# Altium footprint library pads.PcbLib: 30 footprints (part 1 of 2)
Each footprint in its own frame and in the unit in brackets; x right, y up, seen from the top. Pads: shape width x height; smd on the part's side, far side on the other; paste and mask are expansions set on the pad; w line width, h text height; cw(c..) or ccw(c..) is an arc to the next point about the centre after c.
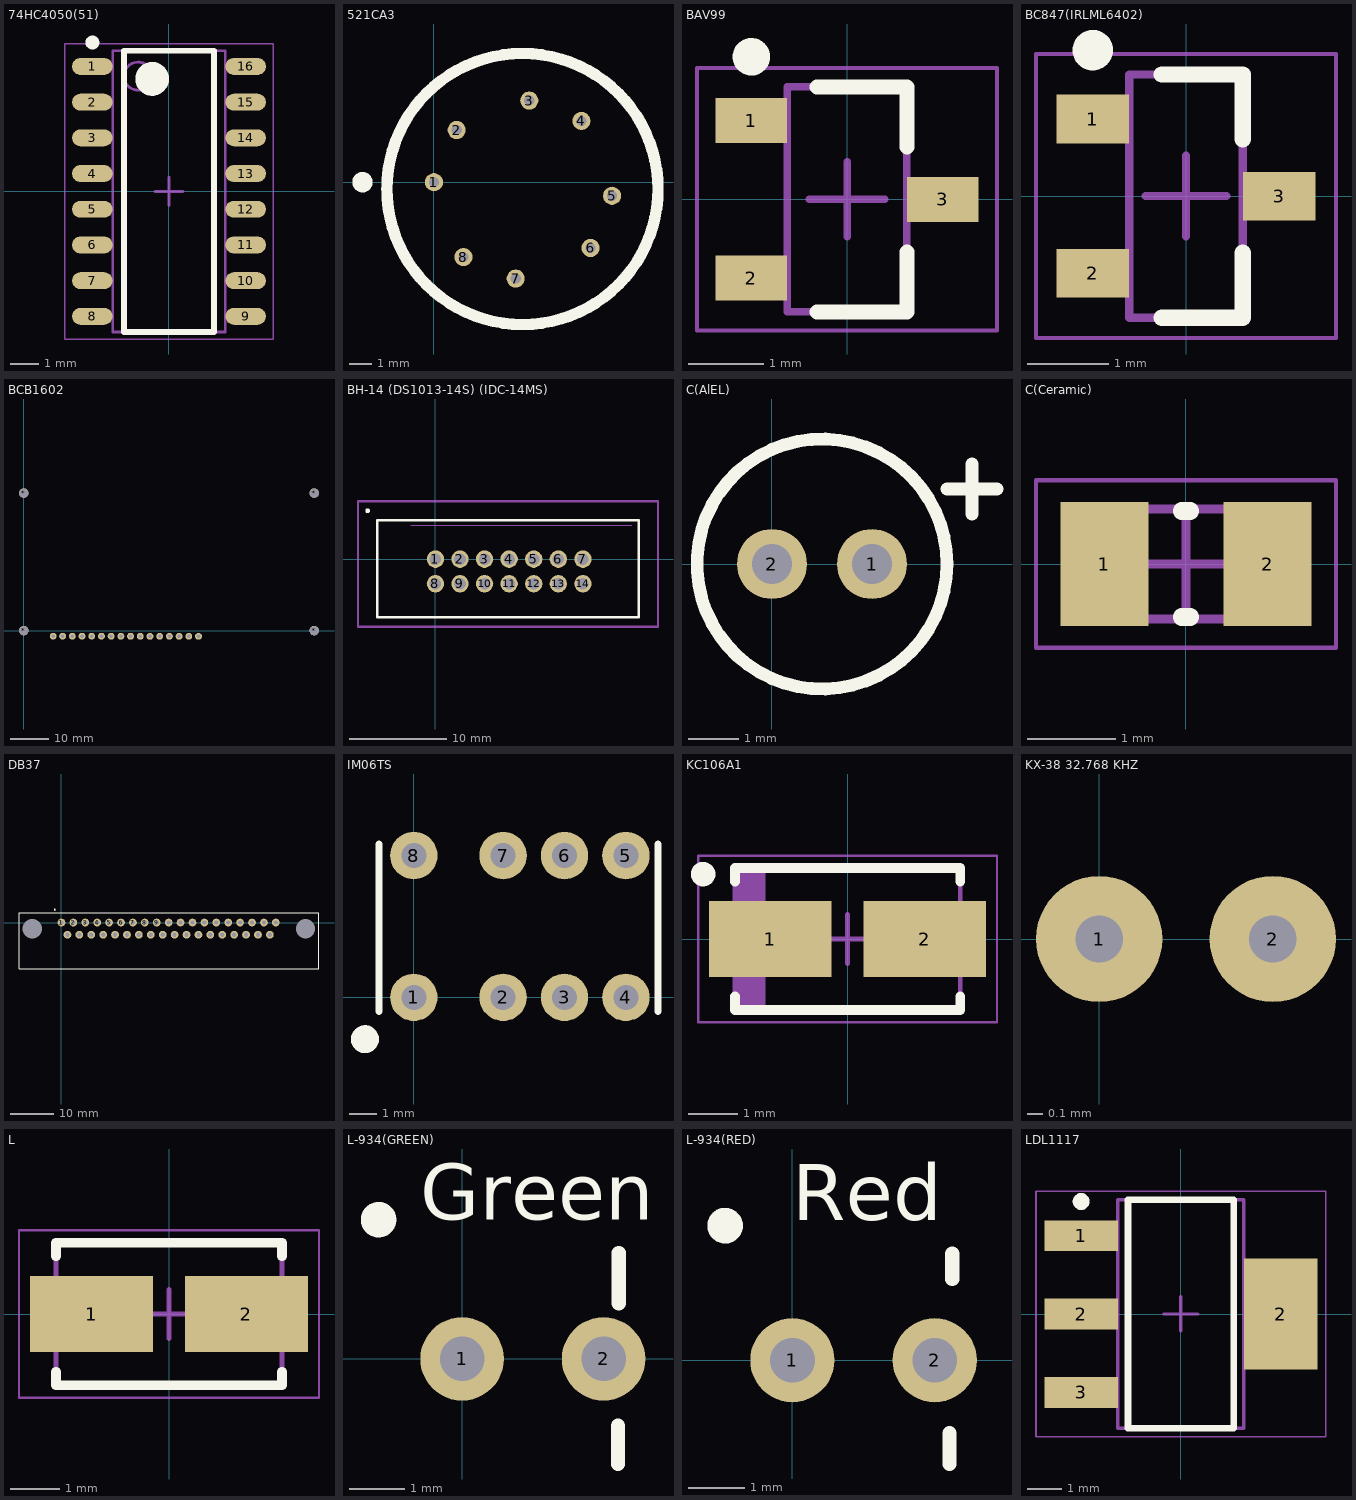
[diagram p0: the footprints below, top view; thin cyan lines are the x and y axes]

## 74HC4050(51) [mm]
height 1.8
pads (16):
  oval 1.45x0.6 smd: 1(-2.725,4.445) 2(-2.725,3.175) 3(-2.725,1.905) 4(-2.725,0.635) 5(-2.725,-0.635) 6(-2.725,-1.905) 7(-2.725,-3.175) 8(-2.725,-4.445) 9(2.725,-4.445) 10(2.725,-3.175) 11(2.725,-1.905) 12(2.725,-0.635) 13(2.725,0.635) 14(2.725,1.905) 15(2.725,3.175) 16(2.725,4.445)
Top Overlay:
  circle w0.6: c-0.6,4 r0.3
  circle w0.25: c-2.725,5.295 r0.125
  lines w0.2: -1.6,-5 1.6,-5 1.6,5 -1.6,5 -1.6,-5
Mechanical 13:
  circle w0.1: c-1.1,4.1 r0.5
  lines w0.1: -2,-5 2,-5 2,5 -2,5 -2,-5
Mechanical 15:
  lines w0.05: -3.7,-5.25 3.7,-5.25 3.7,5.25 -3.7,5.25 -3.7,-5.25
  lines w0.1: -0.5,0 0.5,0 ; 0,-0.5 0,0.5
3D body "SOIC127P600X175-16N.step": height 1.75, standoff 0, extent -3,-5 3,5

## 521СА3 [mm]
pads (8):
  round 0.8 hole 0.45: 1(0,0) 2(1,2.3) 3(4.2,3.6) 4(6.5,2.7) 5(7.85,-0.6) 6(6.9,-2.9) 7(3.6,-4.25) 8(1.3,-3.3)
Top Overlay:
  circle w0.5: c3.9,-0.3 r5.975
  circle w0.5: c-3.15,0 r0.2
3D body "User Library-301_8-2.STEP": height 7.7, standoff -2.7, extent -1.94,-5 8.6,4.4

## BAV99 [mm] "SOT23, 3-Leads, Body 2,90x2,45mm, Pitch 1,05mm, IPC Medium Density"
height 1.3
pads (3):
  rect 0.95x0.6 smd: 1(-1.275,1.05) 2(-1.275,-1.05) 3(1.275,0)
Top Overlay:
  circle w0.25: c-1.275,1.9 r0.125
  lines w0.2: -0.4,-1.5 0.8,-1.5 0.8,-0.7 ; -0.4,1.5 0.8,1.5 0.8,0.7
Mechanical 13:
  lines w0.1: -0.8,-1.5 0.8,-1.5 0.8,1.5 -0.8,1.5 -0.8,-1.5
Mechanical 15:
  lines w0.05: -2,-1.75 2,-1.75 2,1.75 -2,1.75 -2,-1.75
  lines w0.1: -0.5,0 0.5,0 ; 0,-0.5 0,0.5
3D body "SOT105P245X130-3N.step": height 1.3, standoff 0, extent -1.4,-1.5 1.4,1.5

## BC847(IRLML6402) [mm] "SOT23, 3-Leads, Body 2,80x2,30mm, Pitch 0,95mm, IPC Medium Density"
height 1.1
pads (3):
  rect 0.9x0.6 smd: 1(-1.15,0.95) 2(-1.15,-0.95) 3(1.15,0)
Top Overlay:
  circle w0.25: c-1.15,1.8 r0.125
  lines w0.2: -0.3,-1.5 0.7,-1.5 0.7,-0.7 ; -0.3,1.5 0.7,1.5 0.7,0.7
Mechanical 13:
  lines w0.1: -0.7,-1.5 -0.7,1.5 0.7,1.5 0.7,-1.5 -0.7,-1.5
Mechanical 15:
  lines w0.05: -1.85,-1.75 -1.85,1.75 1.85,1.75 1.85,-1.75 -1.85,-1.75
  lines w0.1: -0.5,0 0.5,0 ; 0,-0.5 0,0.5
3D body "SOT95P230X110-3N.step": height 1.1, standoff 0, extent -1.3,-1.5 1.3,1.5

## BCB1602 [mm]
pads (20):
  round 1.8 hole 1: 1(7.7,-1.46) 2(10.16,-1.462) 3(12.7,-1.463) 4(15.24,-1.465) 5(17.78,-1.466) 6(20.32,-1.468) 7(22.86,-1.47) 8(25.4,-1.471) 9(27.94,-1.473) 10(30.48,-1.475) 11(33.02,-1.476) 12(35.56,-1.478) 13(38.1,-1.479) 14(40.64,-1.481) 15(43.18,-1.483) 16(45.72,-1.484)
  round 2.5 hole 2.5 unplated: *(0,0) *(0,36) *(76,0) *(76,36)

## BH-14 (DS1013-14S) (IDC-14MS) [mm]
pads (14):
  round 1.8 hole 1.2: 1(0,0) 2(2.54,0) 3(5.08,0) 4(7.62,0) 5(10.16,0) 6(12.7,0) 7(15.24,0) 8(0,-2.54) 9(2.54,-2.54) 10(5.08,-2.54) 11(7.62,-2.54) 12(10.16,-2.54) 13(12.7,-2.54) 14(15.24,-2.54)
Top Overlay:
  circle w0.25: c-7,5 r0.125
  lines w0.254: -6,-6 21,-6 21,4 -6,4 -6,-6
Mechanical 15:
  lines w0: -2.54,3.5 20.3,3.5
  lines w0.254: -8,-7 -8,6 23,6 23,-7 -8,-7
3D body "User Library-IDC-14MS.STEP": height 10.25, standoff -2.45, extent -5.1,-5.7 20.3,3.65
3D body: height 6.5, standoff 1.5, extent 30.1,-2 30.1,-2

## C(AlEL) [mm]
pads (2):
  round 1.4 hole 0.8: 1(2,0) 2(0,0)
Top Overlay:
  circle w0.254: c1,0 r2.5
  lines w0.254: 3.5,1.5 4.5,1.5 ; 4,1 4,2
3D body "User Library-cap 5x11.STEP": height 12, standoff -18, extent -1.5,-2.5 3.5,2.5
3D body: height 8.25, standoff -8.25, extent 1.75,-2.75 1.75,-2.75
3D body: height 8.25, standoff -8.25, extent 4.5,-4 4.5,-4

## C(Ceramic) [mm] "Chip Capacitor, 2-Leads, Body 2,00x1,25mm, IPC Medium Density"
height 1.3
pads (2):
  rect 1x1.4 smd: 1(-0.925,0) 2(0.925,0)
Top Overlay:
  lines w0.2: -0.05,-0.6 0.05,-0.6 ; -0.05,0.6 0.05,0.6
Mechanical 13:
  lines w0.1: -1,-0.625 -1,0.625 1,0.625 1,-0.625 -1,-0.625
Mechanical 15:
  lines w0.05: -1.7,-0.95 -1.7,0.95 1.7,0.95 1.7,-0.95 -1.7,-0.95
  lines w0.1: -0.5,0 0.5,0 ; 0,-0.5 0,0.5
3D body "CAPC2012X13N.step": height 1.3, standoff 0, extent -1,-0.625 1,0.625

## DB37 [mm]
pads (39):
  round 1.8 hole 1: 1(0,0) 2(2.77,0) 3(5.54,0) 4(8.31,0) 5(11.08,0) 6(13.85,0) 7(16.62,0) 8(19.39,0) 9(22.16,0) 10(24.93,0) 11(27.7,0) 12(30.47,0) 13(33.24,0) 14(36.01,0) 15(38.78,0) 16(41.55,0) 17(44.32,0) 18(47.09,0) 19(49.86,0) 20(1.385,-2.84) 21(4.155,-2.84) 22(6.925,-2.84) 23(9.695,-2.84) 24(12.465,-2.84) 25(15.235,-2.84) 26(18.005,-2.84) 27(20.775,-2.84) 28(23.545,-2.84) 29(26.315,-2.84) 30(29.085,-2.84) 31(31.855,-2.84) 32(34.625,-2.84) 33(37.395,-2.84) 34(40.165,-2.84) 35(42.935,-2.84) 36(45.705,-2.84) 37(48.475,-2.84)
  round 1.6 hole 4.5 unplated: *(-6.775,-1.45) *(56.775,-1.475)
Top Overlay:
  circle w0.25: c-1.55,3.025 r0.125
  lines w0.254: -9.875,-10.8 59.9,-10.8 59.9,2.225 -9.825,2.225 -9.875,2.175 -9.875,-10.8
3D body "User Library-DBPN1M-37.step": height 12.55, standoff -4.82, extent -9.775,-17.112 59.725,2.062

## IM06TS [mm]
pads (8):
  round 1.7 hole 0.9: 1(0,0) 2(3.2,0) 3(5.4,0) 4(7.6,0) 5(7.6,5.08) 6(5.4,5.08) 7(3.2,5.08) 8(0,5.08)
Top Overlay:
  circle w0.5: c-1.75,-1.5 r0.25
  lines w0.254: -1.25,-0.5 -1.25,5.5 ; 8.75,-0.5 8.75,5.5
3D body "User Library-L10,1_B06,1_H05,9_A02,20.step": height 5.4, standoff -3.45, extent -1.25,-0.5 8.75,5.5

## KC106A1 [mm]
pads (2):
  rect 2.5x1.55 smd: 1(-1.575,0) 2(1.575,0)
Top Overlay:
  circle w0.25: c-2.95,1.325 r0.125
  lines w0.2: -2.3,-1.175 -2.3,-1.45 2.3,-1.45 2.3,-1.175 ; -2.3,1.175 -2.3,1.45 2.3,1.45 2.3,1.175
Mechanical 13:
  rectangle: -2.3,-1.45 -1.681,1.45
  lines w0.1: -2.3,-1.45 2.3,-1.45 2.3,1.45 -2.3,1.45 -2.3,-1.45
Mechanical 15:
  lines w0.05: -3.05,-1.7 3.05,-1.7 3.05,1.7 -3.05,1.7 -3.05,-1.7
  lines w0.1: -0.5,0 0.5,0 ; 0,-0.5 0,0.5
3D body "DIOM4327X24N.step": height 2.44, standoff 0, extent -2.52,-1.45 2.52,1.45

## KX-38 32.768 KHZ [mm]
pads (2):
  round 0.8 hole 0.3: 1(0,0) 2(1.1,0)

## L [mm] "Molded Inductor, 2-Leads, Body 4,30x2,70mm, IPC Medium Density"
height 2.44
pads (2):
  rect 2.5x1.55 smd: 1(-1.575,0) 2(1.575,0)
Top Overlay:
  lines w0.2: -2.3,-1.175 -2.3,-1.45 2.3,-1.45 2.3,-1.175 ; -2.3,1.175 -2.3,1.45 2.3,1.45 2.3,1.175
Mechanical 13:
  lines w0.1: -2.3,-1.45 -2.3,1.45 2.3,1.45 2.3,-1.45 -2.3,-1.45
Mechanical 15:
  lines w0.05: -3.05,-1.7 -3.05,1.7 3.05,1.7 3.05,-1.7 -3.05,-1.7
  lines w0.1: -0.5,0 0.5,0 ; 0,-0.5 0,0.5
3D body "INDM4327X24N.step": height 2.44, standoff 0, extent -2.52,-1.45 2.52,1.45

## L-934(GREEN) [mm]
pads (2):
  round 1.5 hole 0.8: 1(0,0) 2(2.54,0)
Top Overlay:
  circle w0.354: c-1.5,2.5 r0.141
  lines w0.254: 2.8,-1.887 2.8,-1.2 ; 2.813,1 2.813,1.9
  text "Green" at -0.75,2.5 h1
3D body: height 6.5, standoff 1.5, extent 0,0 0,0
3D body: height 6.5, standoff 1.5, extent 0.25,0.25 0.25,0.25
3D body: height 6.5, standoff 1.5, extent 1.285,0 1.285,0
3D body: height 6.5, standoff 1.5, extent 1.285,0 1.285,0
3D body: height 6.5, standoff 1.5, extent 1.285,0 1.285,0
3D body: height 6.5, standoff 1.5, extent 1.285,0 1.285,0
3D body "everlight-3MM-LED-GREEN.step": height 5.64, standoff -6.93, extent -0.613,-1.9 2.813,1.9
3D body: height 8.25, standoff -8.25, extent -0.5,3 -0.5,3

## L-934(RED) [mm]
pads (2):
  round 1.5 hole 0.8: 1(0,0) 2(2.54,0)
Top Overlay:
  circle w0.354: c-1.2,2.4 r0.141
  lines w0.254: 2.8,-1.85 2.8,-1.3 ; 2.85,1.45 2.85,1.9
  text "Red" at 0,2.5 h1
3D body: height 6.5, standoff 1.5, extent 1.285,0 1.285,0
3D body: height 6.5, standoff 1.5, extent 1.285,0 1.285,0
3D body: height 6.5, standoff 1.5, extent 1.285,0 1.285,0
3D body: height 6.5, standoff 1.5, extent 1.285,0 1.285,0
3D body: height 6.5, standoff 1.5, extent 0.25,0.25 0.25,0.25
3D body: height 6.5, standoff 1.5, extent 0,0 0,0
3D body: height 8.25, standoff -8.25, extent -0.5,3 -0.5,3
3D body "CircuitWorks-LED DIP 3MM.step": height 6, standoff -2.5, extent -0.65,-1.9 2.85,1.9

## LDL1117 [mm]
height 1.8
pads (4):
  rect 2.15x0.9 smd: 1(-2.925,2.3) 2(-2.925,0) 3(-2.925,-2.3)
  rect 2.15x3.25 smd: 2(2.925,0)
Top Overlay:
  circle w0.25: c-2.925,3.3 r0.125
  lines w0.2: -1.55,-3.35 1.55,-3.35 1.55,3.35 -1.55,3.35 -1.55,-3.35
Mechanical 13:
  lines w0.1: -1.85,-3.35 1.85,-3.35 1.85,3.35 -1.85,3.35 -1.85,-3.35
Mechanical 15:
  lines w0.05: -4.25,-3.6 4.25,-3.6 4.25,3.6 -4.25,3.6 -4.25,-3.6
  lines w0.1: -0.5,0 0.5,0 ; 0,-0.5 0,0.5
3D body "SOT230P700X180-4N.step": height 1.8, standoff 0, extent -3.5,-3.35 3.5,3.35